# EAGLE library part DRV8834 (library IntegerLabs)
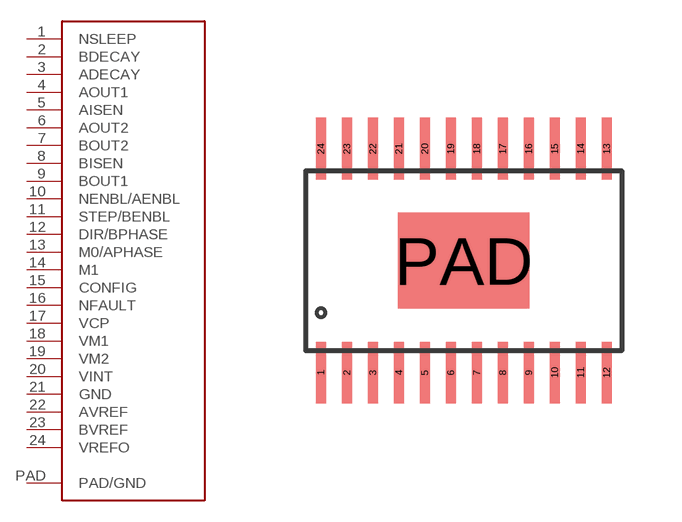
[diagram p3: symbol with the pads of HTSSOP-24; footprint HTSSOP-24]

Designator prefix -

## DRV8834  [HTSSOP-24]
1  NSLEEP
2  BDECAY
3  ADECAY
4  AOUT1
5  AISEN
6  AOUT2
7  BOUT2
8  BISEN
9  BOUT1
10  NENBL/AENBL
11  STEP/BENBL
12  DIR/BPHASE
13  M0/APHASE
14  M1
15  CONFIG
16  NFAULT
17  VCP
18  VM1
19  VM2
20  VINT
21  GND
22  AVREF
23  BVREF
24  VREFO
PAD  PAD/GND

## Footprint HTSSOP-24 (pad centres in mm)
smd 0.25 x 1.55: 1 -3.575,-2.8; 2 -2.925,-2.8; 3 -2.275,-2.8; 4 -1.625,-2.8; 5 -0.975,-2.8; 6 -0.325,-2.8; 7 0.325,-2.8; 8 0.975,-2.8; 9 1.625,-2.8; 10 2.275,-2.8; 11 2.925,-2.8; 12 3.575,-2.8; 13 3.575,2.8; 14 2.925,2.8; 15 2.275,2.8; 16 1.625,2.8; 17 0.975,2.8; 18 0.325,2.8; 19 -0.325,2.8; 20 -0.975,2.8; 21 -1.625,2.8; 22 -2.275,2.8; 23 -2.925,2.8; 24 -3.575,2.8
smd 3.28 x 2.4: PAD 0,0